# Altium integrated library moma_altium_library.IntLib: 6 symbols
Pins are listed as number, name and electrical type; pins without a type are passive.

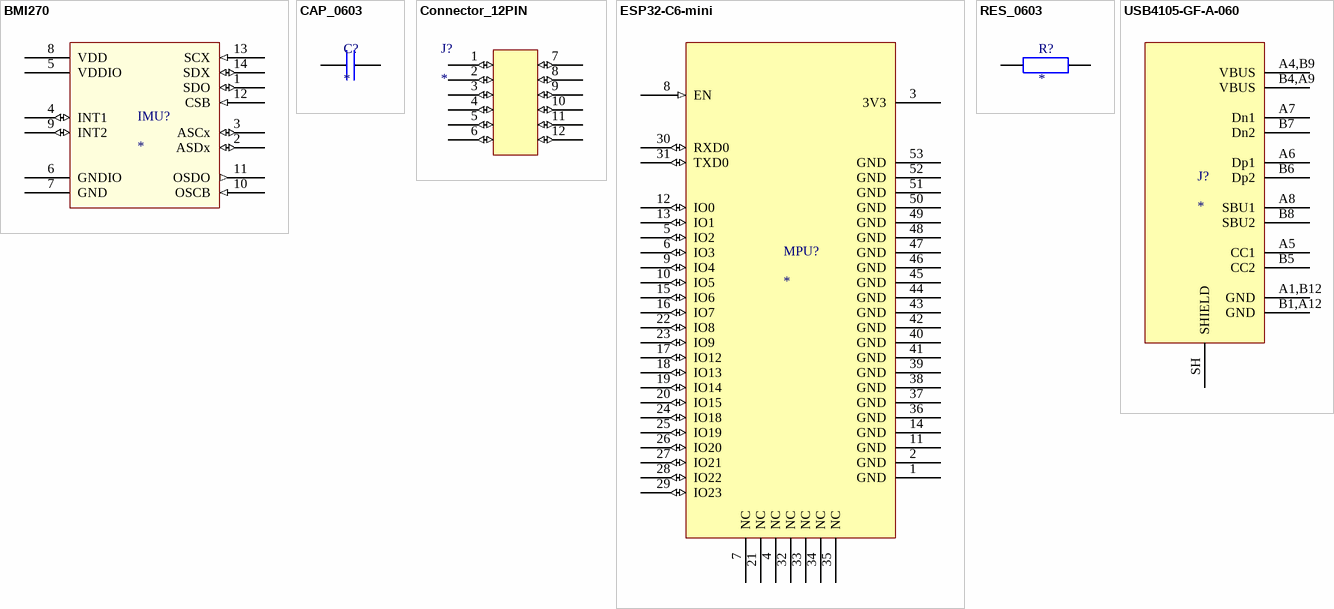
[diagram p0: symbols BMI270 to USB4105-GF-A-060]

## BMI270
designator IMU?
footprint LGA14_3x2.5x0.8mm (LGA, 14-Leads, Body 3.00x2.50mm, Pitch 0.50mm, Thermal Pad 0.10x0.10mm, IPC Medium Density)
pins: 1 SDO (io), 2 ASDx (io), 3 ASCx (io), 4 INT1 (io), 5 VDDIO (power), 6 GNDIO (power), 7 GND (power), 8 VDD (power), 9 INT2 (io), 10 OSCB (in), 11 OSDO (out), 12 CSB (in), 13 SCX (in), 14 SDX (io)

## CAP_0603
designator C?
footprint CAP_0603
pins: 1, 2

## Connector_12PIN
designator J?
footprint 12PIN_connector
pins: 1 (io), 2 (io), 3 (io), 4 (io), 5 (io), 6 (io), 7 (io), 8 (io), 9 (io), 10 (io), 11 (io), 12 (io)

## ESP32-C6-mini
designator MPU?
footprint ESP32C6_MINI (Footprint for ESP32-C6-mini module)
pins: 1 GND (power), 2 GND (power), 3 3V3 (power), 4 NC, 5 IO2 (io), 6 IO3 (io), 7 NC, 8 EN (in), 9 IO4 (io), 10 IO5 (io), 11 GND (power), 12 IO0 (io), 13 IO1 (io), 14 GND (power), 15 IO6 (io), 16 IO7 (io), 17 IO12 (io), 18 IO13 (io), 19 IO14 (io), 20 IO15 (io), 21 NC, 22 IO8 (io), 23 IO9 (io), 24 IO18 (io), 25 IO19 (io), 26 IO20 (io), 27 IO21 (io), 28 IO22 (io), 29 IO23 (io), 30 RXD0 (io), 31 TXD0 (io), 32 NC, 33 NC, 34 NC, 35 NC, 36 GND (power), 37 GND (power), 38 GND (power), 39 GND (power), 40 GND (power), 41 GND (power), 42 GND (power), 43 GND (power), 44 GND (power), 45 GND (power), 46 GND (power), 47 GND (power), 48 GND (power), 49 GND (power), 50 GND (power), 51 GND (power), 52 GND (power), 53 GND (power)

## RES_0603
designator R?
footprint RES_0603 (Chip Resistor, 2-Leads, Body 1.60x0.80mm, IPC Medium Density)
pins: 1, 2

## USB4105-GF-A-060
designator J?
This is 16pin USB-C connector
footprint GCT_USB4105-GF-A-060; pin to pad A1,B12>A1_B12 A4,B9>A4_B9 B1,A12>B1_A12 B4,A9>B4_A9
pins: A1,B12 GND (power), A4,B9 VBUS (power), A5 CC1, A6 Dp1, A7 Dn1, A8 SBU1, B1,A12 GND (power), B4,A9 VBUS (power), B5 CC2, B6 Dp2, B7 Dn2, B8 SBU2, SH SHIELD